# Altium schematic symbol library RCLAMP0502A.SchLib: 1 symbol
Pins are listed as number, name and electrical type; pins without a type are passive.

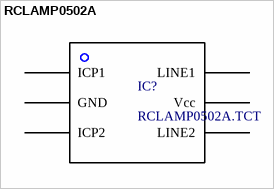
[diagram p0: symbol RCLAMP0502A]

## RCLAMP0502A
designator IC?, comment RCLAMP0502A.TCT
Manufacturer: Semtech Corporation; PartDescription: TVS DIODE 5VWM 18VC SC89; Supplier 1: Digi-Key; Supplier Part Number 1: RCLAMP0502ACT-ND; PartNumber: RCLAMP0502A.TCT; Package Type: SOT-666
footprint SOT-666
pins: 1 ICP1, 2 GND, 3 ICP2, 4 LINE2, 5 Vcc, 6 LINE1